# EAGLE library part OP275 (library Strutz Electronic Industries)
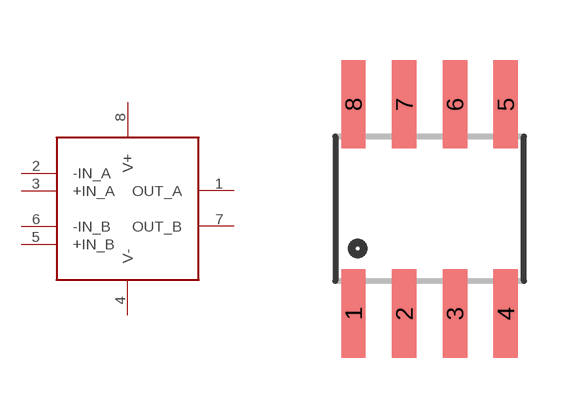
[diagram p18: symbol with the pads of SO-8; footprint SO-8]

Designator prefix -

## OP275  [SO-8]
1  OUT_A
2  -IN_A
3  +IN_A
4  V-
5  +IN_B
6  -IN_B
7  OUT_B
8  V+

## Footprint SO-8 (pad centres in mm)
smd 0.61 x 2.21: 1 -1.905,-2.616; 2 -0.635,-2.616; 3 0.635,-2.616; 4 1.905,-2.616; 5 1.905,2.616; 6 0.635,2.616; 7 -0.635,2.616; 8 -1.905,2.616